# Altium schematic symbol library TC264_CoreBoard.SchLib: 1 symbol
Pins are listed as number, name and electrical type; pins without a type are passive.

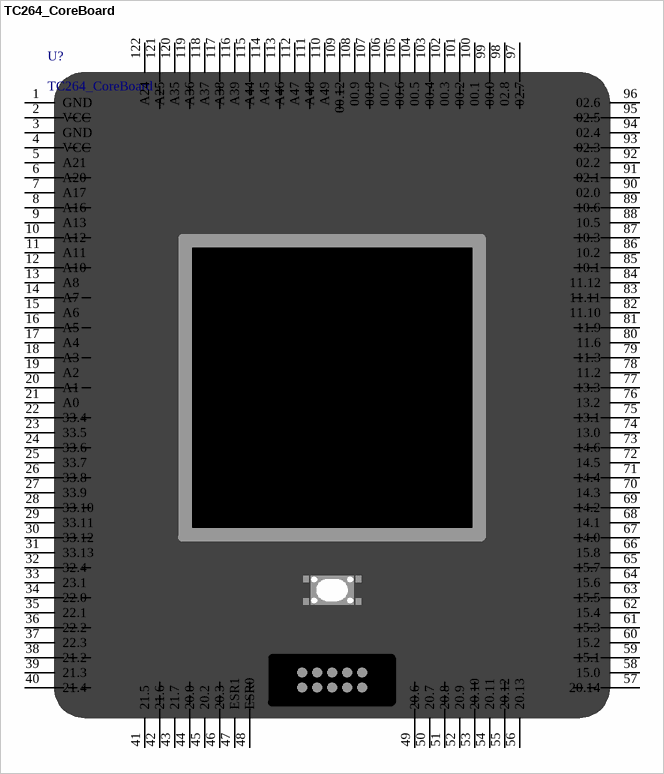
[diagram p0: symbol TC264_CoreBoard]

## TC264_CoreBoard
designator U?
逐飞科技TC264核心板
footprint TC264_CoreBoard (逐飞科技TC264核心板)
pins: 1 GND, 2 VCC, 3 GND, 4 VCC, 5 A21, 6 A20, 7 A17, 8 A16, 9 A13, 10 A12, 11 A11, 12 A10, 13 A8, 14 A7, 15 A6, 16 A5, 17 A4, 18 A3, 19 A2, 20 A1, 21 A0, 22 33.4, 23 33.5, 24 33.6, 25 33.7, 26 33.8, 27 33.9, 28 33.10, 29 33.11, 30 33.12, 31 33.13, 32 32.4, 33 23.1, 34 22.0, 35 22.1, 36 22.2, 37 22.3, 38 21.2, 39 21.3, 40 21.4, 41 21.5, 42 21.6, 43 21.7, 44 20.0, 45 20.2, 46 20.3, 47 ESR1, 48 ESR0, 49 20.6, 50 20.7, 51 20.8, 52 20.9, 53 20.10, 54 20.11, 55 20.12, 56 20.13, 57 20.14, 58 15.0, 59 15.1, 60 15.2, 61 15.3, 62 15.4, 63 15.5, 64 15.6, 65 15.7, 66 15.8, 67 14.0, 68 14.1, 69 14.2, 70 14.3, 71 14.4, 72 14.5, 73 14.6, 74 13.0, 75 13.1, 76 13.2, 77 13.3, 78 11.2, 79 11.3, 80 11.6, 81 11.9, 82 11.10, 83 11.11, 84 11.12, 85 10.1, 86 10.2, 87 10.3, 88 10.5, 89 10.6, 90 02.0, 91 02.1, 92 02.2, 93 02.3, 94 02.4, 95 02.5, 96 02.6, 97 02.7, 98 02.8, 99 00.0, 100 00.1, 101 00.2, 102 00.3, 103 00.4, 104 00.5, 105 00.6, 106 00.7, 107 00.8, 108 00.9, 109 00.12, 110 A49, 111 A48, 112 A47, 113 A46, 114 A45, 115 A44, 116 A39, 117 A38, 118 A37, 119 A36, 120 A35, 121 A25, 122 A24